# EAGLE library part 74LVC1G3208DBVRE4 (library DLP_TI)
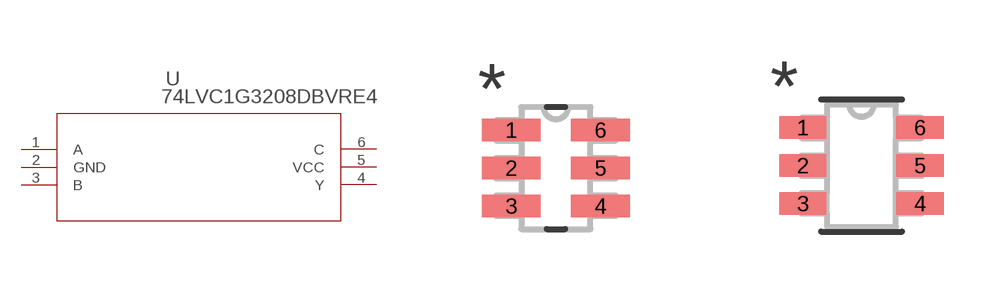
[diagram p6: symbol with the pads of DBV6; footprints DBV6, DBV6-M]

Designator prefix U

## 74LVC1G3208DBVRE4 (COPYRIGHT: Copyright (C) 2021 Ultra Librarian. All rights reserved.; MANUFACTURER_PART_NUMBER: 74LVC1G3208DBVRE4; MFR_NAME: Texas Instruments)  [DBV6]
1  A  in
2  GND  pwr
3  B  in
4  Y  out
5  VCC  pwr
6  C  in

## 74LVC1G3208DBVRE4DBV6-M (COPYRIGHT: Copyright (C) 2021 Ultra Librarian. All rights reserved.; MANUFACTURER_PART_NUMBER: 74LVC1G3208DBVRE4; MFR_NAME: Texas Instruments)  [DBV6-M]
Pads as for DBV6

## 74LVC1G3208DBVRE4DBV6-L (COPYRIGHT: Copyright (C) 2021 Ultra Librarian. All rights reserved.; MANUFACTURER_PART_NUMBER: 74LVC1G3208DBVRE4; MFR_NAME: Texas Instruments)  [DBV6-L]
Pads as for DBV6

## Footprint DBV6 (pad centres in mm)
smd 1.473 x 0.559: 1 -1.118,0.95; 2 -1.118,0; 3 -1.118,-0.95; 4 1.118,-0.95; 5 1.118,0; 6 1.118,0.95

## Footprint DBV6-M (pad centres in mm)
smd 1.181 x 0.559: 1 -1.467,0.95; 2 -1.467,0; 3 -1.467,-0.95; 4 1.467,-0.95; 5 1.467,0; 6 1.467,0.95

## Footprint DBV6-L (pad centres in mm)
smd 0.775 x 0.508: 1 -1.264,0.95; 2 -1.264,0; 3 -1.264,-0.95; 4 1.264,-0.95; 5 1.264,0; 6 1.264,0.95